# Altium integrated library Freescale Semiconductor Kinetis ARM.IntLib: 40 symbols (part 6 of 6)
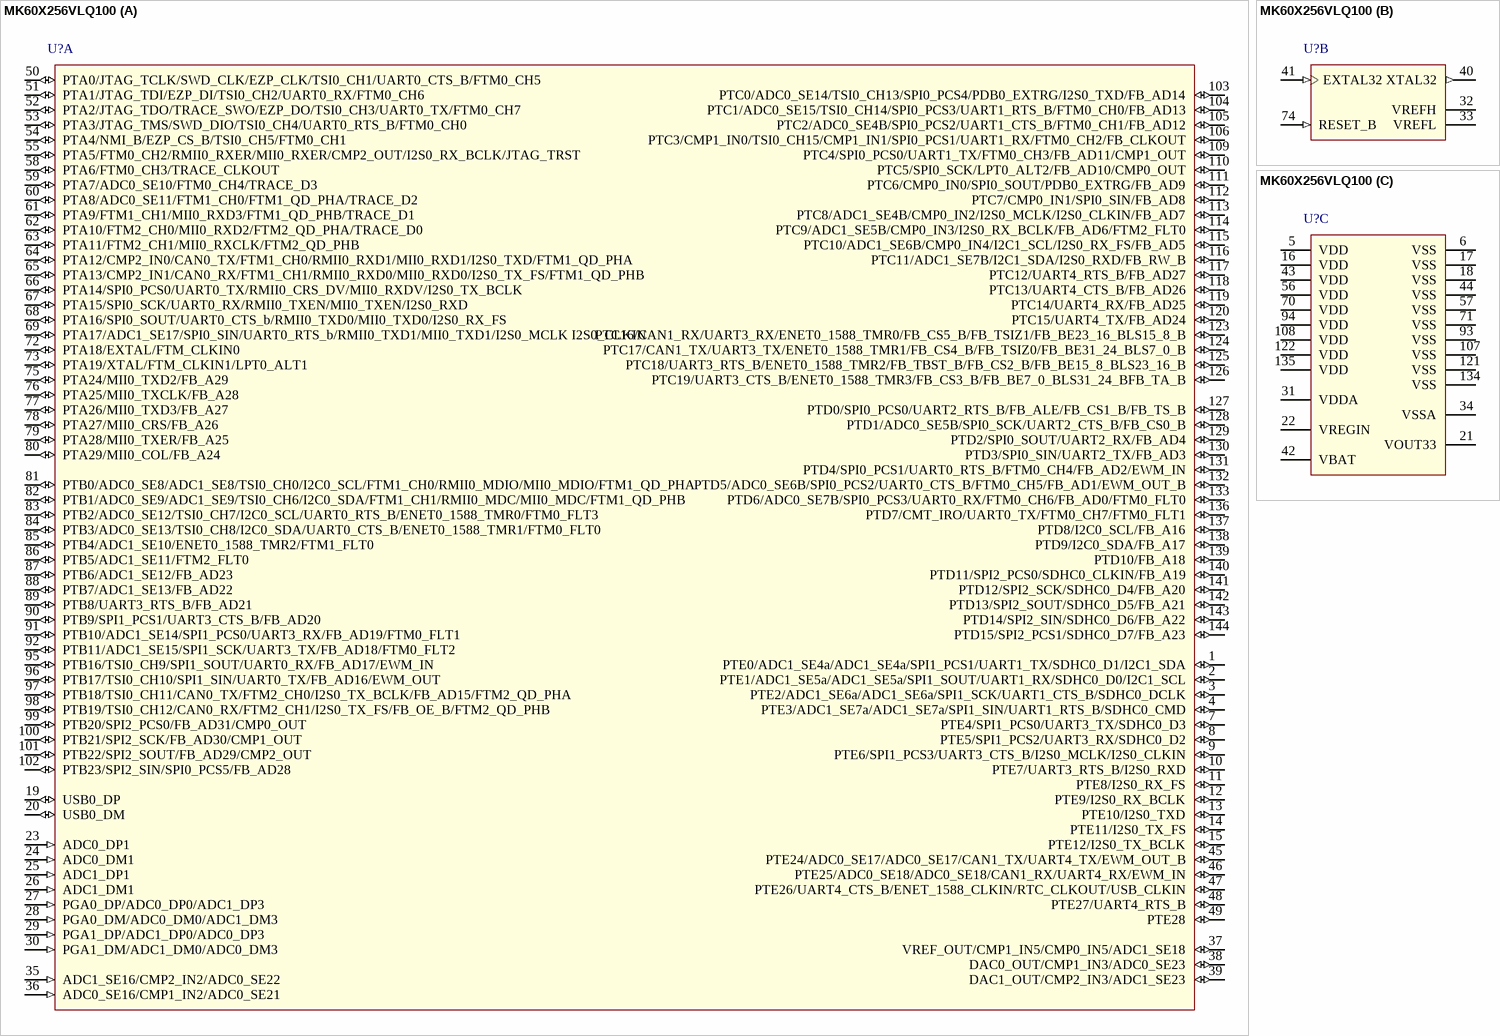
[diagram p37: symbol MK60X256VLQ100]

## MK60X256VLQ100
designator U?
Kinetis 32-Bit ARM Cortex-M4 Core, K60, 256KB Program Flash Memory, 128KB RAM, 4KB FlexRAM, 144-Pin LQFP; DatasheetVersion: rev4, Mar-2011; PackageVersion: revG, Nov-2009; PackageReference: 918-03; PackageDescription: 144-Pin Thin Quad Flat Pack, 20 x 20 mm Body, 0.5 mm Pitch; ComponentLink1Description: Manufacturer URL; ComponentLink1URL: http://www.freescale.com/
footprint 918-03_N (Thin QFP, 144-Leads, Body 20x20mm, Pitch 0.5mm, IPC Medium Density)
footprint 918-03_L (Thin QFP, 144-Leads, Body 20x20mm, Pitch 0.5mm, IPC High Density)
footprint 918-03_M (Thin QFP, 144-Leads, Body 20x20mm, Pitch 0.5mm, IPC Low Density)
part A pins: 1 PTE0/ADC1_SE4a/ADC1_SE4a/SPI1_PCS1/UART1_TX/SDHC0_D1/I2C1_SDA (io), 2 PTE1/ADC1_SE5a/ADC1_SE5a/SPI1_SOUT/UART1_RX/SDHC0_D0/I2C1_SCL (io), 3 PTE2/ADC1_SE6a/ADC1_SE6a/SPI1_SCK/UART1_CTS_B/SDHC0_DCLK (io), 4 PTE3/ADC1_SE7a/ADC1_SE7a/SPI1_SIN/UART1_RTS_B/SDHC0_CMD (io), 7 PTE4/SPI1_PCS0/UART3_TX/SDHC0_D3 (io), 8 PTE5/SPI1_PCS2/UART3_RX/SDHC0_D2 (io), 9 PTE6/SPI1_PCS3/UART3_CTS_B/I2S0_MCLK/I2S0_CLKIN (io), 10 PTE7/UART3_RTS_B/I2S0_RXD (io), 11 PTE8/I2S0_RX_FS (io), 12 PTE9/I2S0_RX_BCLK (io), 13 PTE10/I2S0_TXD (io), 14 PTE11/I2S0_TX_FS (io), 15 PTE12/I2S0_TX_BCLK (io), 19 USB0_DP (io), 20 USB0_DM (io), 23 ADC0_DP1 (in), 24 ADC0_DM1 (in), 25 ADC1_DP1 (in), 26 ADC1_DM1 (in), 27 PGA0_DP/ADC0_DP0/ADC1_DP3 (in), 28 PGA0_DM/ADC0_DM0/ADC1_DM3 (in), 29 PGA1_DP/ADC1_DP0/ADC0_DP3 (in), 30 PGA1_DM/ADC1_DM0/ADC0_DM3 (in), 35 ADC1_SE16/CMP2_IN2/ADC0_SE22 (in), 36 ADC0_SE16/CMP1_IN2/ADC0_SE21 (in), 37 VREF_OUT/CMP1_IN5/CMP0_IN5/ADC1_SE18 (io), 38 DAC0_OUT/CMP1_IN3/ADC0_SE23 (io), 39 DAC1_OUT/CMP2_IN3/ADC1_SE23 (io), 45 PTE24/ADC0_SE17/ADC0_SE17/CAN1_TX/UART4_TX/EWM_OUT_B (io), 46 PTE25/ADC0_SE18/ADC0_SE18/CAN1_RX/UART4_RX/EWM_IN (io), 47 PTE26/UART4_CTS_B/ENET_1588_CLKIN/RTC_CLKOUT/USB_CLKIN (io), 48 PTE27/UART4_RTS_B (io), 49 PTE28 (io), 50 PTA0/JTAG_TCLK/SWD_CLK/EZP_CLK/TSI0_CH1/UART0_CTS_B/FTM0_CH5 (io), 51 PTA1/JTAG_TDI/EZP_DI/TSI0_CH2/UART0_RX/FTM0_CH6 (io), 52 PTA2/JTAG_TDO/TRACE_SWO/EZP_DO/TSI0_CH3/UART0_TX/FTM0_CH7 (io), 53 PTA3/JTAG_TMS/SWD_DIO/TSI0_CH4/UART0_RTS_B/FTM0_CH0 (io), 54 PTA4/NMI_B/EZP_CS_B/TSI0_CH5/FTM0_CH1 (io), 55 PTA5/FTM0_CH2/RMII0_RXER/MII0_RXER/CMP2_OUT/I2S0_RX_BCLK/JTAG_TRST (io), 58 PTA6/FTM0_CH3/TRACE_CLKOUT (io), 59 PTA7/ADC0_SE10/FTM0_CH4/TRACE_D3 (io), 60 PTA8/ADC0_SE11/FTM1_CH0/FTM1_QD_PHA/TRACE_D2 (io), 61 PTA9/FTM1_CH1/MII0_RXD3/FTM1_QD_PHB/TRACE_D1 (io), 62 PTA10/FTM2_CH0/MII0_RXD2/FTM2_QD_PHA/TRACE_D0 (io), 63 PTA11/FTM2_CH1/MII0_RXCLK/FTM2_QD_PHB (io), 64 PTA12/CMP2_IN0/CAN0_TX/FTM1_CH0/RMII0_RXD1/MII0_RXD1/I2S0_TXD/FTM1_QD_PHA (io), 65 PTA13/CMP2_IN1/CAN0_RX/FTM1_CH1/RMII0_RXD0/MII0_RXD0/I2S0_TX_FS/FTM1_QD_PHB (io), 66 PTA14/SPI0_PCS0/UART0_TX/RMII0_CRS_DV/MII0_RXDV/I2S0_TX_BCLK (io), 67 PTA15/SPI0_SCK/UART0_RX/RMII0_TXEN/MII0_TXEN/I2S0_RXD (io), 68 PTA16/SPI0_SOUT/UART0_CTS_b/RMII0_TXD0/MII0_TXD0/I2S0_RX_FS (io), 69 PTA17/ADC1_SE17/SPI0_SIN/UART0_RTS_b/RMII0_TXD1/MII0_TXD1/I2S0_MCLK I2S0_CLKIN (io), 72 PTA18/EXTAL/FTM_CLKIN0 (io), 73 PTA19/XTAL/FTM_CLKIN1/LPT0_ALT1 (io), 75 PTA24/MII0_TXD2/FB_A29 (io), 76 PTA25/MII0_TXCLK/FB_A28 (io), 77 PTA26/MII0_TXD3/FB_A27 (io), 78 PTA27/MII0_CRS/FB_A26 (io), 79 PTA28/MII0_TXER/FB_A25 (io), 80 PTA29/MII0_COL/FB_A24 (io), 81 PTB0/ADC0_SE8/ADC1_SE8/TSI0_CH0/I2C0_SCL/FTM1_CH0/RMII0_MDIO/MII0_MDIO/FTM1_QD_PHA (io), 82 PTB1/ADC0_SE9/ADC1_SE9/TSI0_CH6/I2C0_SDA/FTM1_CH1/RMII0_MDC/MII0_MDC/FTM1_QD_PHB (io), 83 PTB2/ADC0_SE12/TSI0_CH7/I2C0_SCL/UART0_RTS_B/ENET0_1588_TMR0/FTM0_FLT3 (io), 84 PTB3/ADC0_SE13/TSI0_CH8/I2C0_SDA/UART0_CTS_B/ENET0_1588_TMR1/FTM0_FLT0 (io), 85 PTB4/ADC1_SE10/ENET0_1588_TMR2/FTM1_FLT0 (io), 86 PTB5/ADC1_SE11/FTM2_FLT0 (io), 87 PTB6/ADC1_SE12/FB_AD23 (io), 88 PTB7/ADC1_SE13/FB_AD22 (io), 89 PTB8/UART3_RTS_B/FB_AD21 (io), 90 PTB9/SPI1_PCS1/UART3_CTS_B/FB_AD20 (io), 91 PTB10/ADC1_SE14/SPI1_PCS0/UART3_RX/FB_AD19/FTM0_FLT1 (io), 92 PTB11/ADC1_SE15/SPI1_SCK/UART3_TX/FB_AD18/FTM0_FLT2 (io), 95 PTB16/TSI0_CH9/SPI1_SOUT/UART0_RX/FB_AD17/EWM_IN (io), 96 PTB17/TSI0_CH10/SPI1_SIN/UART0_TX/FB_AD16/EWM_OUT (io), 97 PTB18/TSI0_CH11/CAN0_TX/FTM2_CH0/I2S0_TX_BCLK/FB_AD15/FTM2_QD_PHA (io), 98 PTB19/TSI0_CH12/CAN0_RX/FTM2_CH1/I2S0_TX_FS/FB_OE_B/FTM2_QD_PHB (io), 99 PTB20/SPI2_PCS0/FB_AD31/CMP0_OUT (io), 100 PTB21/SPI2_SCK/FB_AD30/CMP1_OUT (io), 101 PTB22/SPI2_SOUT/FB_AD29/CMP2_OUT (io), 102 PTB23/SPI2_SIN/SPI0_PCS5/FB_AD28 (io), 103 PTC0/ADC0_SE14/TSI0_CH13/SPI0_PCS4/PDB0_EXTRG/I2S0_TXD/FB_AD14 (io), 104 PTC1/ADC0_SE15/TSI0_CH14/SPI0_PCS3/UART1_RTS_B/FTM0_CH0/FB_AD13 (io), 105 PTC2/ADC0_SE4B/SPI0_PCS2/UART1_CTS_B/FTM0_CH1/FB_AD12 (io), 106 PTC3/CMP1_IN0/TSI0_CH15/CMP1_IN1/SPI0_PCS1/UART1_RX/FTM0_CH2/FB_CLKOUT (io), 109 PTC4/SPI0_PCS0/UART1_TX/FTM0_CH3/FB_AD11/CMP1_OUT (io), 110 PTC5/SPI0_SCK/LPT0_ALT2/FB_AD10/CMP0_OUT (io), 111 PTC6/CMP0_IN0/SPI0_SOUT/PDB0_EXTRG/FB_AD9 (io), 112 PTC7/CMP0_IN1/SPI0_SIN/FB_AD8 (io), 113 PTC8/ADC1_SE4B/CMP0_IN2/I2S0_MCLK/I2S0_CLKIN/FB_AD7 (io), 114 PTC9/ADC1_SE5B/CMP0_IN3/I2S0_RX_BCLK/FB_AD6/FTM2_FLT0 (io), 115 PTC10/ADC1_SE6B/CMP0_IN4/I2C1_SCL/I2S0_RX_FS/FB_AD5 (io), 116 PTC11/ADC1_SE7B/I2C1_SDA/I2S0_RXD/FB_RW_B (io), 117 PTC12/UART4_RTS_B/FB_AD27 (io), 118 PTC13/UART4_CTS_B/FB_AD26 (io), 119 PTC14/UART4_RX/FB_AD25 (io), 120 PTC15/UART4_TX/FB_AD24 (io), 123 PTC16/CAN1_RX/UART3_RX/ENET0_1588_TMR0/FB_CS5_B/FB_TSIZ1/FB_BE23_16_BLS15_8_B (io), 124 PTC17/CAN1_TX/UART3_TX/ENET0_1588_TMR1/FB_CS4_B/FB_TSIZ0/FB_BE31_24_BLS7_0_B (io), 125 PTC18/UART3_RTS_B/ENET0_1588_TMR2/FB_TBST_B/FB_CS2_B/FB_BE15_8_BLS23_16_B (io), 126 PTC19/UART3_CTS_B/ENET0_1588_TMR3/FB_CS3_B/FB_BE7_0_BLS31_24_BFB_TA_B (io), 127 PTD0/SPI0_PCS0/UART2_RTS_B/FB_ALE/FB_CS1_B/FB_TS_B (io), 128 PTD1/ADC0_SE5B/SPI0_SCK/UART2_CTS_B/FB_CS0_B (io), 129 PTD2/SPI0_SOUT/UART2_RX/FB_AD4 (io), 130 PTD3/SPI0_SIN/UART2_TX/FB_AD3 (io), 131 PTD4/SPI0_PCS1/UART0_RTS_B/FTM0_CH4/FB_AD2/EWM_IN (io), 132 PTD5/ADC0_SE6B/SPI0_PCS2/UART0_CTS_B/FTM0_CH5/FB_AD1/EWM_OUT_B (io), 133 PTD6/ADC0_SE7B/SPI0_PCS3/UART0_RX/FTM0_CH6/FB_AD0/FTM0_FLT0 (io), 136 PTD7/CMT_IRO/UART0_TX/FTM0_CH7/FTM0_FLT1 (io), 137 PTD8/I2C0_SCL/FB_A16 (io), 138 PTD9/I2C0_SDA/FB_A17 (io), 139 PTD10/FB_A18 (io), 140 PTD11/SPI2_PCS0/SDHC0_CLKIN/FB_A19 (io), 141 PTD12/SPI2_SCK/SDHC0_D4/FB_A20 (io), 142 PTD13/SPI2_SOUT/SDHC0_D5/FB_A21 (io), 143 PTD14/SPI2_SIN/SDHC0_D6/FB_A22 (io), 144 PTD15/SPI2_PCS1/SDHC0_D7/FB_A23 (io)
part B pins: 32 VREFH (power), 33 VREFL (power), 40 XTAL32 (out), 41 EXTAL32 (in), 74 RESET_B (in)
part C pins: 5 VDD (power), 6 VSS (power), 16 VDD (power), 17 VSS (power), 18 VSS (power), 21 VOUT33 (power), 22 VREGIN (power), 31 VDDA (power), 34 VSSA (power), 42 VBAT (power), 43 VDD (power), 44 VSS (power), 56 VDD (power), 57 VSS (power), 70 VDD (power), 71 VSS (power), 93 VSS (power), 94 VDD (power), 107 VSS (power), 108 VDD (power), 121 VSS (power), 122 VDD (power), 134 VSS (power), 135 VDD (power)